# Altium footprint library SAMTEC_TSW-116-07-G-D.PcbLib: 1 footprints
Each footprint in its own frame and in the unit in brackets; x right, y up, seen from the top. Pads: shape width x height; smd on the part's side, far side on the other; paste and mask are expansions set on the pad; w line width, h text height; cw(c..) or ccw(c..) is an arc to the next point about the centre after c.
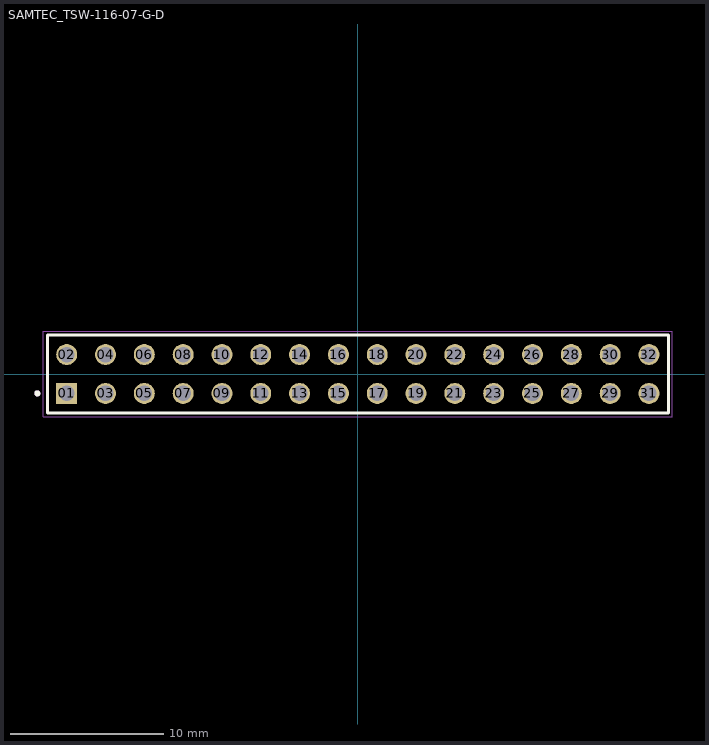
[diagram p0: the footprint, top view; thin cyan lines are the x and y axes]

## SAMTEC_TSW-116-07-G-D [mm]
pads (32):
  rect 1.37x1.37 hole 1.02: 01(-19.05,-1.27)
  round 1.37 hole 1.02: 02(-19.05,1.27) 03(-16.51,-1.27) 04(-16.51,1.27) 05(-13.97,-1.27) 06(-13.97,1.27) 07(-11.43,-1.27) 08(-11.43,1.27) 09(-8.89,-1.27) 10(-8.89,1.27) 11(-6.35,-1.27) 12(-6.35,1.27) 13(-3.81,-1.27) 14(-3.81,1.27) 15(-1.27,-1.27) 16(-1.27,1.27) 17(1.27,-1.27) 18(1.27,1.27) 19(3.81,-1.27) 20(3.81,1.27) 21(6.35,-1.27) 22(6.35,1.27) 23(8.89,-1.27) 24(8.89,1.27) 25(11.43,-1.27) 26(11.43,1.27) 27(13.97,-1.27) 28(13.97,1.27) 29(16.51,-1.27) 30(16.51,1.27) 31(19.05,-1.27) 32(19.05,1.27)
Top Overlay:
  circle w0.2: c-20.97,-1.27 r0.1
  lines w0.2: -20.32,-2.54 -20.32,2.54 20.32,2.54 20.32,-2.54 -20.32,-2.54
Mechanical 13:
  circle w0.2: c-20.97,-1.27 r0.1
  lines w0.1: -20.32,-2.54 -20.32,2.54 ; -20.32,-2.54 20.32,-2.54 ; -20.32,-2.54 -20.32,2.54 ; -20.32,2.54 20.32,2.54 ; -20.32,2.54 20.32,2.54 ; 20.32,-2.54 20.32,2.54 ; 20.32,-2.54 20.32,2.54
Mechanical 15:
  lines w0.05: -20.57,-2.79 -20.57,2.79 20.57,2.79 20.57,-2.79 -20.57,-2.79